# EAGLE library part PSH04-08 (library #PaJa_konektory)
Konektory se zamkem - vidlice - 8pin, RM3,96mm
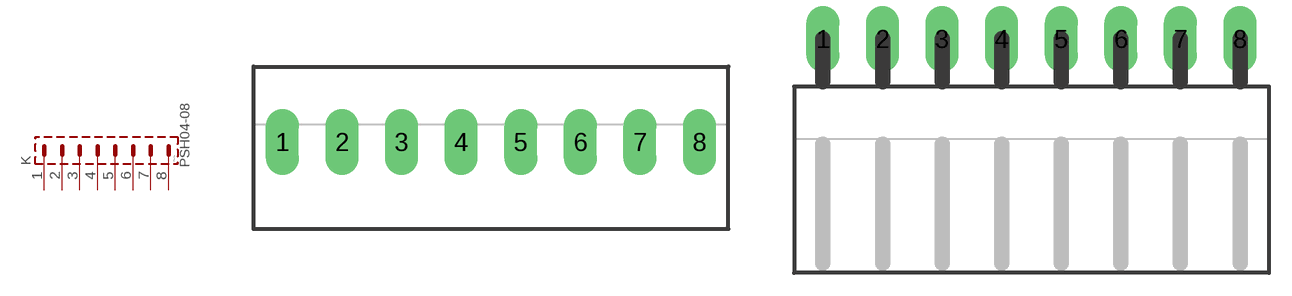
[diagram p16: symbol with the pads of PSH04-08P; footprints PSH04-08P, PSH04-08W]

Designator prefix K

## PSH04-08P  [PSH04-08P]
1  1  pas
2  2  pas
3  3  pas
4  4  pas
5  5  pas
6  6  pas
7  7  pas
8  8  pas

## PSH04-08W  [PSH04-08W]
Pads as for PSH04-08P

## Footprint PSH04-08P (pad centres in mm)
drill 1.2 pad 2.184 long: 1 -13.868,0; 2 -9.906,0; 3 -5.944,0; 4 -1.981,0; 5 1.981,0; 6 5.944,0; 7 9.906,0; 8 13.868,0

## Footprint PSH04-08W (pad centres in mm)
drill 1.2 pad 2.184 long: 1 -13.868,0; 2 -9.906,0; 3 -5.944,0; 4 -1.981,0; 5 1.981,0; 6 5.944,0; 7 9.906,0; 8 13.868,0